# Altium integrated library Actel RTAX-S-SL.IntLib: 132 symbols (part 28 of 41)
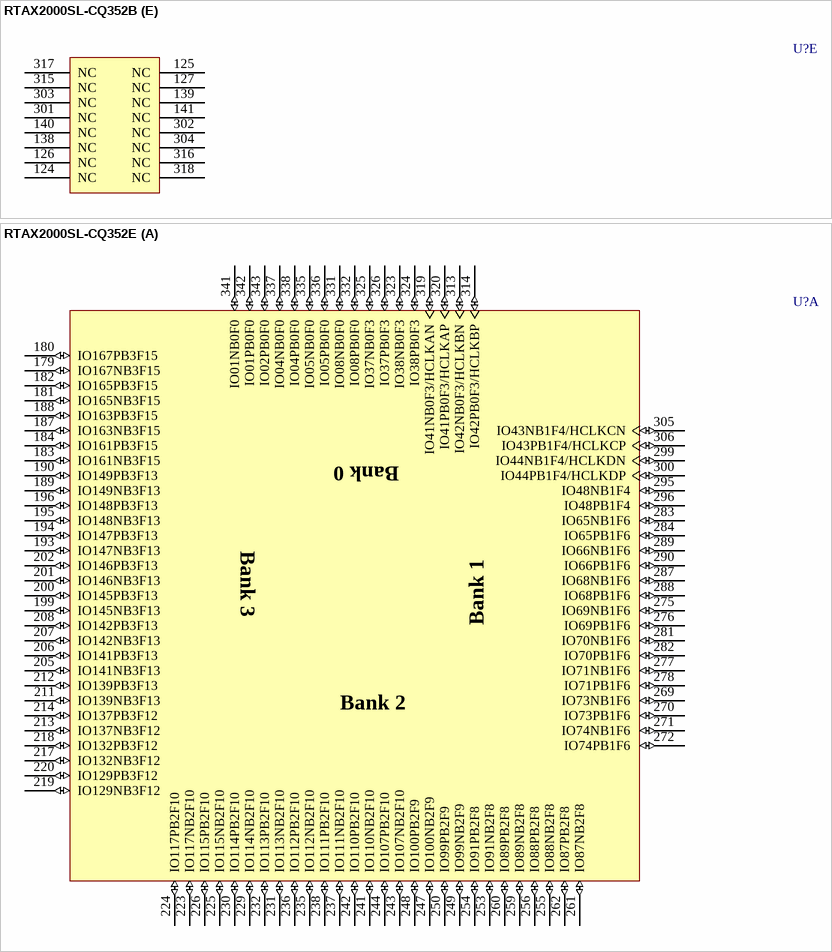
[diagram p406: symbols RTAX2000SL-CQ352B to RTAX2000SL-CQ352E]

## RTAX2000SL-CQ352B
designator U?
RTAX-SL RadTolerant FPGA, 2 Million Equivalent System Gates, Low-Power, 352-Pin CQFP, Speed Grade Standard, MIL-STD-883 Class B; Published: 11-Dec-2009; DatasheetVersion: v5.4, May-2009; PackageVersion: ver11.2, Nov-2009; PackageReference: CQ352; Publisher: Altium Limited; PackageDescription: 352-Pin Ceramic Quad Flat Pack (CQFP), Cavity Up without Heat Sink; Code_JEDEC: MO-134-AE; ComponentLink1Description: RTAX-S/SL RadTolerant Datasheet; ComponentLink1URL: http://www.actel.com/documents/RTAXS_DS.pdf; ComponentLink2Description: Package Mechanical Drawings; ComponentLink2URL: http://www.actel.com/documents/PckgMechDrwngs.pdf; ComponentLink3Description: RTAX-S/SL RadTolerant Documents; ComponentLink3URL: http://www.actel.com/products/milaero/rtaxs/docs.aspx; ComponentLink4Description: Actel.com Home; ComponentLink4URL: http://www.actel.com/
footprint CQ352_N (CQFP, 352-Leads, Body 48x48mm; Pitch 0.5mm, Gullwing Leadform, IPC Medium Density)
footprint CQ352_L (CQFP, 352-Leads, Body 48x48mm; Pitch 0.5mm, Gullwing Leadform, IPC High Density)
footprint CQ352_M (CQFP, 352-Leads, Body 48x48mm; Pitch 0.5mm, Gullwing Leadform, IPC Low Density)
part A pins: 179 IO167NB3F15 (io), 180 IO167PB3F15 (io), 181 IO165NB3F15 (io), 182 IO165PB3F15 (io), 183 IO161NB3F15 (io), 184 IO161PB3F15 (io), 187 IO163NB3F15 (io), 188 IO163PB3F15 (io), 189 IO149NB3F13 (io), 190 IO149PB3F13 (io), 193 IO147NB3F13 (io), 194 IO147PB3F13 (io), 195 IO148NB3F13 (io), 196 IO148PB3F13 (io), 199 IO145NB3F13 (io), 200 IO145PB3F13 (io), 201 IO146NB3F13 (io), 202 IO146PB3F13 (io), 205 IO141NB3F13 (io), 206 IO141PB3F13 (io), 207 IO142NB3F13 (io), 208 IO142PB3F13 (io), 211 IO139NB3F13 (io), 212 IO139PB3F13 (io), 213 IO137NB3F12 (io), 214 IO137PB3F12 (io), 217 IO132NB3F12 (io), 218 IO132PB3F12 (io), 219 IO129NB3F12 (io), 220 IO129PB3F12 (io), 223 IO117NB2F10 (io), 224 IO117PB2F10 (io), 225 IO115NB2F10 (io), 226 IO115PB2F10 (io), 229 IO114NB2F10 (io), 230 IO114PB2F10 (io), 231 IO113NB2F10 (io), 232 IO113PB2F10 (io), 235 IO112NB2F10 (io), 236 IO112PB2F10 (io), 237 IO111NB2F10 (io), 238 IO111PB2F10 (io), 241 IO110NB2F10 (io), 242 IO110PB2F10 (io), 243 IO107NB2F10 (io), 244 IO107PB2F10 (io), 247 IO100NB2F9 (io), 248 IO100PB2F9 (io), 249 IO99NB2F9 (io), 250 IO99PB2F9 (io), 253 IO91NB2F8 (io), 254 IO91PB2F8 (io), 255 IO88NB2F8 (io), 256 IO88PB2F8 (io), 259 IO89NB2F8 (io), 260 IO89PB2F8 (io), 261 IO87NB2F8 (io), 262 IO87PB2F8 (io), 269 IO73NB1F6 (io), 270 IO73PB1F6 (io), 271 IO74NB1F6 (io), 272 IO74PB1F6 (io), 275 IO69NB1F6 (io), 276 IO69PB1F6 (io), 277 IO71NB1F6 (io), 278 IO71PB1F6 (io), 281 IO70NB1F6 (io), 282 IO70PB1F6 (io), 283 IO65NB1F6 (io), 284 IO65PB1F6 (io), 287 IO68NB1F6 (io), 288 IO68PB1F6 (io), 289 IO66NB1F6 (io), 290 IO66PB1F6 (io), 295 IO48NB1F4 (io), 296 IO48PB1F4 (io), 299 IO44NB1F4/HCLKDN (io), 300 IO44PB1F4/HCLKDP (io), 305 IO43NB1F4/HCLKCN (io), 306 IO43PB1F4/HCLKCP (io), 313 IO42NB0F3/HCLKBN (io), 314 IO42PB0F3/HCLKBP (io), 319 IO41NB0F3/HCLKAN (io), 320 IO41PB0F3/HCLKAP (io), 323 IO38NB0F3 (io), 324 IO38PB0F3 (io), 325 IO37NB0F3 (io), 326 IO37PB0F3 (io), 331 IO08NB0F0 (io), 332 IO08PB0F0 (io), 335 IO05NB0F0 (io), 336 IO05PB0F0 (io), 337 IO04NB0F0 (io), 338 IO04PB0F0 (io), 341 IO01NB0F0 (io), 342 IO01PB0F0 (io), 343 IO02PB0F0 (io)
part B pins: 4 IO341NB7F31 (io), 5 IO341PB7F31 (io), 6 IO338NB7F31 (io), 7 IO338PB7F31 (io), 10 IO334NB7F31 (io), 11 IO334PB7F31 (io), 12 IO335NB7F31 (io), 13 IO335PB7F31 (io), 16 IO320NB7F29 (io), 17 IO320PB7F29 (io), 18 IO318NB7F29 (io), 19 IO318PB7F29 (io), 22 IO316NB7F29 (io), 23 IO316PB7F29 (io), 24 IO317NB7F29 (io), 25 IO317PB7F29 (io), 28 IO312NB7F29 (io), 29 IO312PB7F29 (io), 30 IO315NB7F29 (io), 31 IO315PB7F29 (io), 34 IO310NB7F29 (io), 35 IO310PB7F29 (io), 36 IO311NB7F29 (io), 37 IO311PB7F29 (io), 40 IO303NB7F28 (io), 41 IO303PB7F28 (io), 42 IO300NB7F28 (io), 43 IO300PB7F28 (io), 46 IO296NB6F27 (io), 47 IO296PB6F27 (io), 48 IO294NB6F27 (io), 49 IO294PB6F27 (io), 52 IO287NB6F26 (io), 53 IO287PB6F26 (io), 54 IO286NB6F26 (io), 55 IO286PB6F26 (io), 58 IO285NB6F26 (io), 59 IO285PB6F26 (io), 60 IO284NB6F26 (io), 61 IO284PB6F26 (io), 64 IO282NB6F26 (io), 65 IO282PB6F26 (io), 66 IO281NB6F26 (io), 67 IO281PB6F26 (io), 70 IO280NB6F26 (io), 71 IO280PB6F26 (io), 72 IO279NB6F26 (io), 73 IO279PB6F26 (io), 76 IO265NB6F24 (io), 77 IO265PB6F24 (io), 78 IO262NB6F24 (io), 79 IO262PB6F24 (io), 82 IO261NB6F24 (io), 83 IO261PB6F24 (io), 84 IO258NB6F24 (io), 85 IO258PB6F24 (io), 86 IO257PB6F24 (io), 92 IO244NB5F22 (io), 93 IO244PB5F22 (io), 94 IO242NB5F22 (io), 95 IO242PB5F22 (io), 98 IO243NB5F22 (io), 99 IO243PB5F22 (io), 100 IO240NB5F22 (io), 101 IO240PB5F22 (io), 104 IO238NB5F22 (io), 105 IO238PB5F22 (io), 106 IO239NB5F22 (io), 107 IO239PB5F22 (io), 110 IO236NB5F22 (io), 111 IO236PB5F22 (io), 112 IO237NB5F22 (io), 113 IO237PB5F22 (io), 118 IO217NB5F20 (io), 119 IO217PB5F20 (io), 122 IO215NB5F20/CLKHN (io), 123 IO215PB5F20/CLKHP (io), 128 IO214NB5F20/CLKGN (io), 129 IO214PB5F20/CLKGP (io), 136 IO213NB4F19/CLKFN (io), 137 IO213PB4F19/CLKFP (io), 142 IO212NB4F19/CLKEN (io), 143 IO212PB4F19/CLKEP (io), 146 IO207NB4F19 (io), 147 IO207PB4F19 (io), 152 IO192NB4F17 (io), 153 IO192PB4F17 (io), 154 IO191NB4F17 (io), 155 IO191PB4F17 (io), 158 IO190NB4F17 (io), 159 IO190PB4F17 (io), 160 IO185NB4F17 (io), 161 IO185PB4F17 (io), 164 IO184NB4F17 (io), 165 IO184PB4F17 (io), 166 IO183NB4F17 (io), 167 IO183PB4F17 (io), 170 IO182NB4F17 (io), 171 IO182PB4F17 (io), 172 IO181NB4F17 (io), 173 IO181PB4F17 (io)
part C pins: 2 VCCDA (power), 3 VCCA (power), 8 VCCIB7 (power), 14 VCCA (power), 20 VCCIB7 (power), 26 VCCIB7 (power), 32 VCCA (power), 38 VCCIB7 (power), 44 VCCDA (power), 50 VCCIB6 (power), 56 VCCA (power), 62 VCCIB6 (power), 68 VCCIB6 (power), 74 VCCA (power), 80 VCCIB6 (power), 87 VCCA (power), 90 VCCDA (power), 91 VCCDA (power), 96 VCCIB5 (power), 102 VCCA (power), 108 VCCIB5 (power), 114 VCCA (power), 116 VCCDA (power), 117 VCCDA (power), 120 VCCIB5 (power), 130 VCCDA (power), 131 VCCDA (power), 132 VCCDA (power), 134 PRD (out), 135 PRC (out), 144 VCCIB4 (power), 148 VCCDA (power), 149 VCCDA (power), 150 VCCA (power), 156 VCCIB4 (power), 162 VCCA (power), 168 VCCIB4 (power), 174 VCCDA (power), 175 VCCA (power), 178 VCCDA (power), 185 VCCIB3 (power), 191 VCCA (power), 197 VCCIB3 (power), 203 VCCIB3 (power), 209 VCCA (power), 215 VCCIB3 (power), 221 VCCDA (power), 227 VCCIB2 (power), 233 VCCA (power), 239 VCCIB2 (power), 245 VCCIB2 (power), 251 VCCA (power), 257 VCCIB2 (power), 263 VCCA (power), 266 VCCDA (power), 267 VPUMP (power), 268 VCCDA (power), 273 VCCIB1 (power), 279 VCCA (power), 285 VCCIB1 (power), 291 VCCA (power), 293 VCCDA (power), 294 VCCDA (power), 297 VCCIB1 (power), 307 VCCDA (power), 308 VCCDA (power), 309 VCCDA (power), 311 PRB (out), 312 PRA (out), 321 VCCIB0 (power), 327 VCCDA (power), 328 VCCDA (power), 329 VCCA (power), 333 VCCIB0 (power), 339 VCCA (power), 344 VCCIB0 (power), 346 VCCDA (power), 347 TDO (hiz), 348 TDI (in), 349 TCK (in), 350 TMS (in), 351 ~{TRST} (in)
part D pins: 1 GND (power), 9 GND (power), 15 GND (power), 21 GND (power), 27 GND (power), 33 GND (power), 39 GND (power), 45 GND (power), 51 GND (power), 57 GND (power), 63 GND (power), 69 GND (power), 75 GND (power), 81 GND (power), 88 GND (power), 89 GND (power), 97 GND (power), 103 GND (power), 109 GND (power), 115 GND (power), 121 GND (power), 133 GND (power), 145 GND (power), 151 GND (power), 157 GND (power), 163 GND (power), 169 GND (power), 176 GND (power), 177 GND (power), 186 GND (power), 192 GND (power), 198 GND (power), 204 GND (power), 210 GND (power), 216 GND (power), 222 GND (power), 228 GND (power), 234 GND (power), 240 GND (power), 246 GND (power), 252 GND (power), 258 GND (power), 264 GND (power), 265 GND (power), 274 GND (power), 280 GND (power), 286 GND (power), 292 GND (power), 298 GND (power), 310 GND (power), 322 GND (power), 330 GND (power), 334 GND (power), 340 GND (power), 345 GND (power), 352 GND (power)
part E pins: 124 NC, 125 NC, 126 NC, 127 NC, 138 NC, 139 NC, 140 NC, 141 NC, 301 NC, 302 NC, 303 NC, 304 NC, 315 NC, 316 NC, 317 NC, 318 NC
part A text: Bank 0; Bank 3; Bank 1; Bank 2
part B text: Bank 4; Bank 7; Bank 5; Bank 6

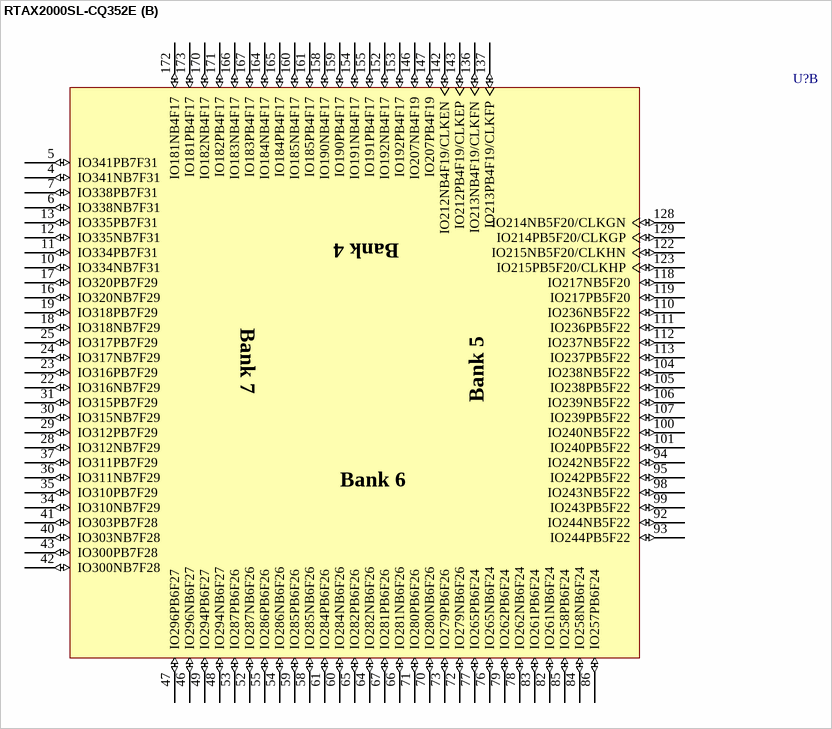
[diagram p267: symbol RTAX2000SL-CQ352E]

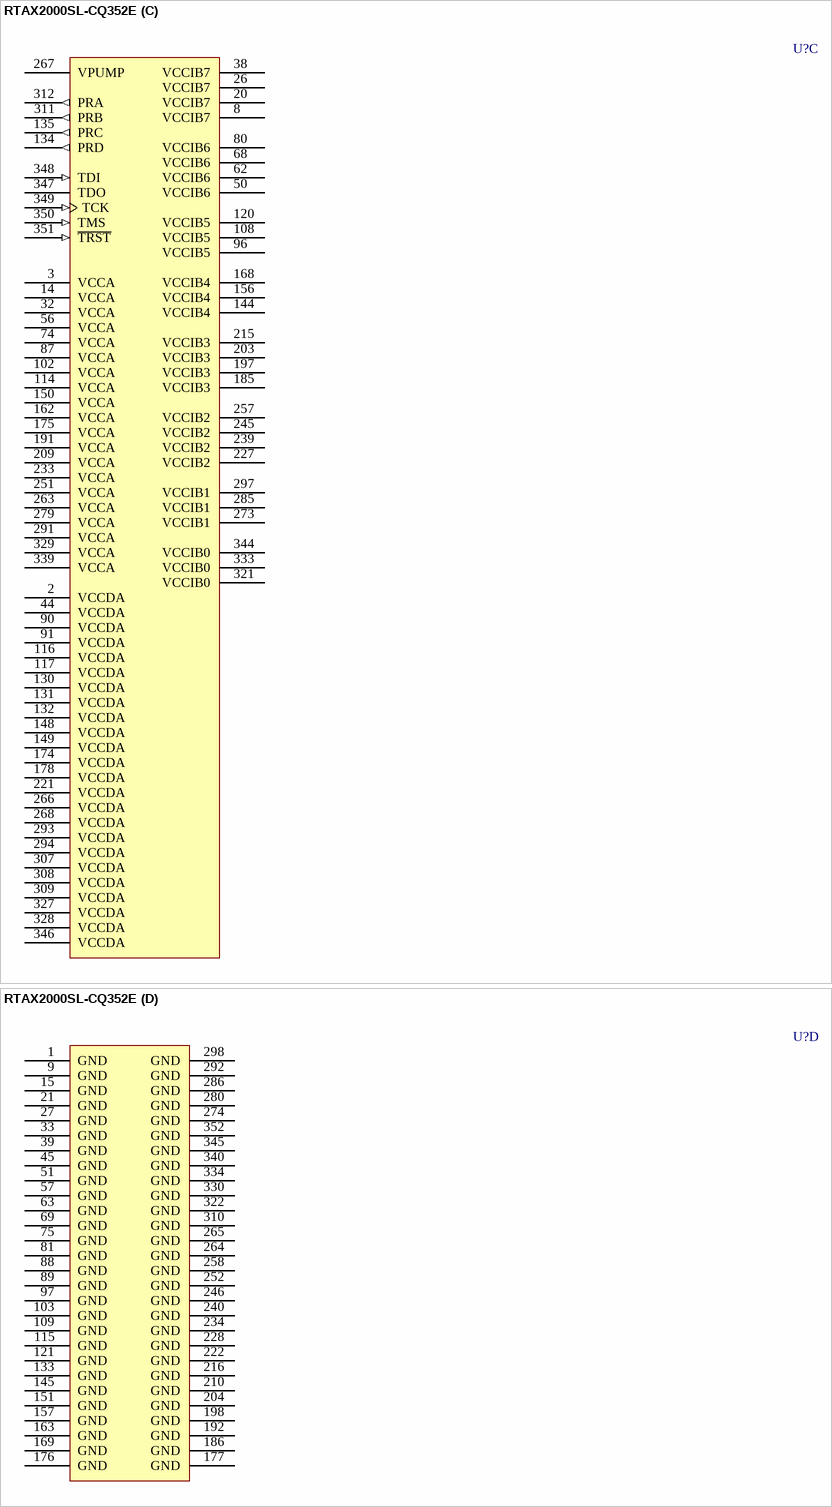
[diagram p268: symbol RTAX2000SL-CQ352E]

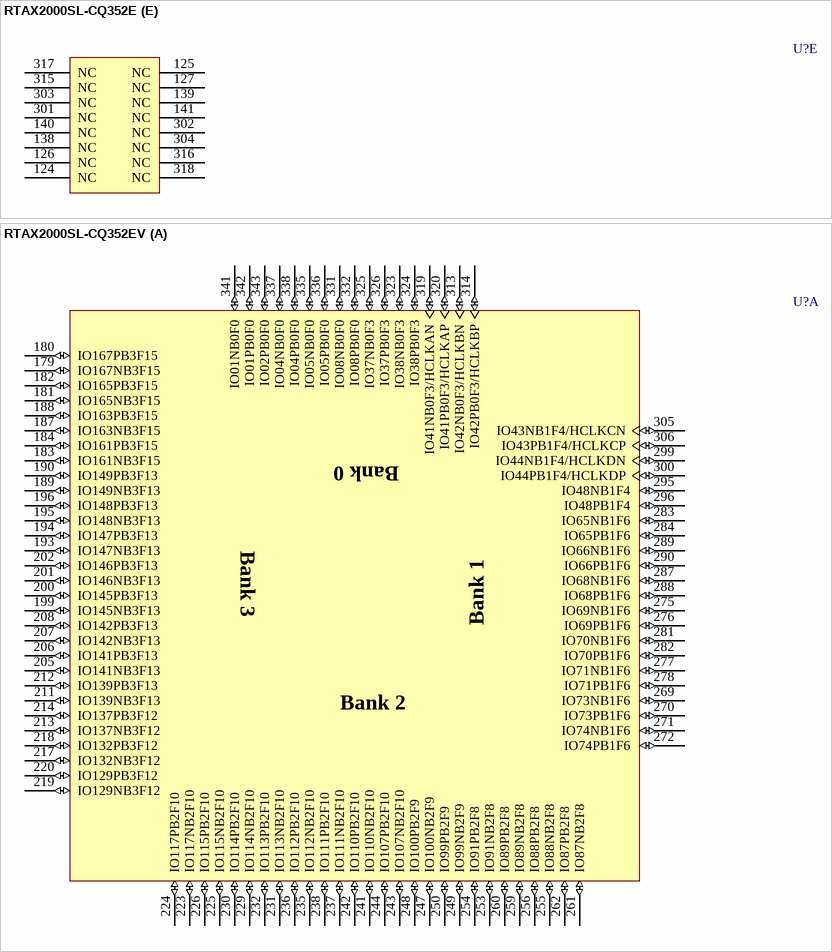
[diagram p269: symbols RTAX2000SL-CQ352E to RTAX2000SL-CQ352EV]

## RTAX2000SL-CQ352E
designator U?
RTAX-SL RadTolerant FPGA, 2 Million Equivalent System Gates, Low-Power, 352-Pin CQFP, Speed Grade Standard, E-Flow (Space Level Flow); Published: 11-Dec-2009; DatasheetVersion: v5.4, May-2009; PackageVersion: ver11.2, Nov-2009; PackageReference: CQ352; Publisher: Altium Limited; PackageDescription: 352-Pin Ceramic Quad Flat Pack (CQFP), Cavity Up without Heat Sink; Code_JEDEC: MO-134-AE; ComponentLink1Description: RTAX-S/SL RadTolerant Datasheet; ComponentLink1URL: http://www.actel.com/documents/RTAXS_DS.pdf; ComponentLink2Description: Package Mechanical Drawings; ComponentLink2URL: http://www.actel.com/documents/PckgMechDrwngs.pdf; ComponentLink3Description: RTAX-S/SL RadTolerant Documents; ComponentLink3URL: http://www.actel.com/products/milaero/rtaxs/docs.aspx; ComponentLink4Description: Actel.com Home; ComponentLink4URL: http://www.actel.com/
footprint CQ352_N (CQFP, 352-Leads, Body 48x48mm; Pitch 0.5mm, Gullwing Leadform, IPC Medium Density)
footprint CQ352_L (CQFP, 352-Leads, Body 48x48mm; Pitch 0.5mm, Gullwing Leadform, IPC High Density)
footprint CQ352_M (CQFP, 352-Leads, Body 48x48mm; Pitch 0.5mm, Gullwing Leadform, IPC Low Density)
part A pins: 179 IO167NB3F15 (io), 180 IO167PB3F15 (io), 181 IO165NB3F15 (io), 182 IO165PB3F15 (io), 183 IO161NB3F15 (io), 184 IO161PB3F15 (io), 187 IO163NB3F15 (io), 188 IO163PB3F15 (io), 189 IO149NB3F13 (io), 190 IO149PB3F13 (io), 193 IO147NB3F13 (io), 194 IO147PB3F13 (io), 195 IO148NB3F13 (io), 196 IO148PB3F13 (io), 199 IO145NB3F13 (io), 200 IO145PB3F13 (io), 201 IO146NB3F13 (io), 202 IO146PB3F13 (io), 205 IO141NB3F13 (io), 206 IO141PB3F13 (io), 207 IO142NB3F13 (io), 208 IO142PB3F13 (io), 211 IO139NB3F13 (io), 212 IO139PB3F13 (io), 213 IO137NB3F12 (io), 214 IO137PB3F12 (io), 217 IO132NB3F12 (io), 218 IO132PB3F12 (io), 219 IO129NB3F12 (io), 220 IO129PB3F12 (io), 223 IO117NB2F10 (io), 224 IO117PB2F10 (io), 225 IO115NB2F10 (io), 226 IO115PB2F10 (io), 229 IO114NB2F10 (io), 230 IO114PB2F10 (io), 231 IO113NB2F10 (io), 232 IO113PB2F10 (io), 235 IO112NB2F10 (io), 236 IO112PB2F10 (io), 237 IO111NB2F10 (io), 238 IO111PB2F10 (io), 241 IO110NB2F10 (io), 242 IO110PB2F10 (io), 243 IO107NB2F10 (io), 244 IO107PB2F10 (io), 247 IO100NB2F9 (io), 248 IO100PB2F9 (io), 249 IO99NB2F9 (io), 250 IO99PB2F9 (io), 253 IO91NB2F8 (io), 254 IO91PB2F8 (io), 255 IO88NB2F8 (io), 256 IO88PB2F8 (io), 259 IO89NB2F8 (io), 260 IO89PB2F8 (io), 261 IO87NB2F8 (io), 262 IO87PB2F8 (io), 269 IO73NB1F6 (io), 270 IO73PB1F6 (io), 271 IO74NB1F6 (io), 272 IO74PB1F6 (io), 275 IO69NB1F6 (io), 276 IO69PB1F6 (io), 277 IO71NB1F6 (io), 278 IO71PB1F6 (io), 281 IO70NB1F6 (io), 282 IO70PB1F6 (io), 283 IO65NB1F6 (io), 284 IO65PB1F6 (io), 287 IO68NB1F6 (io), 288 IO68PB1F6 (io), 289 IO66NB1F6 (io), 290 IO66PB1F6 (io), 295 IO48NB1F4 (io), 296 IO48PB1F4 (io), 299 IO44NB1F4/HCLKDN (io), 300 IO44PB1F4/HCLKDP (io), 305 IO43NB1F4/HCLKCN (io), 306 IO43PB1F4/HCLKCP (io), 313 IO42NB0F3/HCLKBN (io), 314 IO42PB0F3/HCLKBP (io), 319 IO41NB0F3/HCLKAN (io), 320 IO41PB0F3/HCLKAP (io), 323 IO38NB0F3 (io), 324 IO38PB0F3 (io), 325 IO37NB0F3 (io), 326 IO37PB0F3 (io), 331 IO08NB0F0 (io), 332 IO08PB0F0 (io), 335 IO05NB0F0 (io), 336 IO05PB0F0 (io), 337 IO04NB0F0 (io), 338 IO04PB0F0 (io), 341 IO01NB0F0 (io), 342 IO01PB0F0 (io), 343 IO02PB0F0 (io)
part B pins: 4 IO341NB7F31 (io), 5 IO341PB7F31 (io), 6 IO338NB7F31 (io), 7 IO338PB7F31 (io), 10 IO334NB7F31 (io), 11 IO334PB7F31 (io), 12 IO335NB7F31 (io), 13 IO335PB7F31 (io), 16 IO320NB7F29 (io), 17 IO320PB7F29 (io), 18 IO318NB7F29 (io), 19 IO318PB7F29 (io), 22 IO316NB7F29 (io), 23 IO316PB7F29 (io), 24 IO317NB7F29 (io), 25 IO317PB7F29 (io), 28 IO312NB7F29 (io), 29 IO312PB7F29 (io), 30 IO315NB7F29 (io), 31 IO315PB7F29 (io), 34 IO310NB7F29 (io), 35 IO310PB7F29 (io), 36 IO311NB7F29 (io), 37 IO311PB7F29 (io), 40 IO303NB7F28 (io), 41 IO303PB7F28 (io), 42 IO300NB7F28 (io), 43 IO300PB7F28 (io), 46 IO296NB6F27 (io), 47 IO296PB6F27 (io), 48 IO294NB6F27 (io), 49 IO294PB6F27 (io), 52 IO287NB6F26 (io), 53 IO287PB6F26 (io), 54 IO286NB6F26 (io), 55 IO286PB6F26 (io), 58 IO285NB6F26 (io), 59 IO285PB6F26 (io), 60 IO284NB6F26 (io), 61 IO284PB6F26 (io), 64 IO282NB6F26 (io), 65 IO282PB6F26 (io), 66 IO281NB6F26 (io), 67 IO281PB6F26 (io), 70 IO280NB6F26 (io), 71 IO280PB6F26 (io), 72 IO279NB6F26 (io), 73 IO279PB6F26 (io), 76 IO265NB6F24 (io), 77 IO265PB6F24 (io), 78 IO262NB6F24 (io), 79 IO262PB6F24 (io), 82 IO261NB6F24 (io), 83 IO261PB6F24 (io), 84 IO258NB6F24 (io), 85 IO258PB6F24 (io), 86 IO257PB6F24 (io), 92 IO244NB5F22 (io), 93 IO244PB5F22 (io), 94 IO242NB5F22 (io), 95 IO242PB5F22 (io), 98 IO243NB5F22 (io), 99 IO243PB5F22 (io), 100 IO240NB5F22 (io), 101 IO240PB5F22 (io), 104 IO238NB5F22 (io), 105 IO238PB5F22 (io), 106 IO239NB5F22 (io), 107 IO239PB5F22 (io), 110 IO236NB5F22 (io), 111 IO236PB5F22 (io), 112 IO237NB5F22 (io), 113 IO237PB5F22 (io), 118 IO217NB5F20 (io), 119 IO217PB5F20 (io), 122 IO215NB5F20/CLKHN (io), 123 IO215PB5F20/CLKHP (io), 128 IO214NB5F20/CLKGN (io), 129 IO214PB5F20/CLKGP (io), 136 IO213NB4F19/CLKFN (io), 137 IO213PB4F19/CLKFP (io), 142 IO212NB4F19/CLKEN (io), 143 IO212PB4F19/CLKEP (io), 146 IO207NB4F19 (io), 147 IO207PB4F19 (io), 152 IO192NB4F17 (io), 153 IO192PB4F17 (io), 154 IO191NB4F17 (io), 155 IO191PB4F17 (io), 158 IO190NB4F17 (io), 159 IO190PB4F17 (io), 160 IO185NB4F17 (io), 161 IO185PB4F17 (io), 164 IO184NB4F17 (io), 165 IO184PB4F17 (io), 166 IO183NB4F17 (io), 167 IO183PB4F17 (io), 170 IO182NB4F17 (io), 171 IO182PB4F17 (io), 172 IO181NB4F17 (io), 173 IO181PB4F17 (io)
part C pins: 2 VCCDA (power), 3 VCCA (power), 8 VCCIB7 (power), 14 VCCA (power), 20 VCCIB7 (power), 26 VCCIB7 (power), 32 VCCA (power), 38 VCCIB7 (power), 44 VCCDA (power), 50 VCCIB6 (power), 56 VCCA (power), 62 VCCIB6 (power), 68 VCCIB6 (power), 74 VCCA (power), 80 VCCIB6 (power), 87 VCCA (power), 90 VCCDA (power), 91 VCCDA (power), 96 VCCIB5 (power), 102 VCCA (power), 108 VCCIB5 (power), 114 VCCA (power), 116 VCCDA (power), 117 VCCDA (power), 120 VCCIB5 (power), 130 VCCDA (power), 131 VCCDA (power), 132 VCCDA (power), 134 PRD (out), 135 PRC (out), 144 VCCIB4 (power), 148 VCCDA (power), 149 VCCDA (power), 150 VCCA (power), 156 VCCIB4 (power), 162 VCCA (power), 168 VCCIB4 (power), 174 VCCDA (power), 175 VCCA (power), 178 VCCDA (power), 185 VCCIB3 (power), 191 VCCA (power), 197 VCCIB3 (power), 203 VCCIB3 (power), 209 VCCA (power), 215 VCCIB3 (power), 221 VCCDA (power), 227 VCCIB2 (power), 233 VCCA (power), 239 VCCIB2 (power), 245 VCCIB2 (power), 251 VCCA (power), 257 VCCIB2 (power), 263 VCCA (power), 266 VCCDA (power), 267 VPUMP (power), 268 VCCDA (power), 273 VCCIB1 (power), 279 VCCA (power), 285 VCCIB1 (power), 291 VCCA (power), 293 VCCDA (power), 294 VCCDA (power), 297 VCCIB1 (power), 307 VCCDA (power), 308 VCCDA (power), 309 VCCDA (power), 311 PRB (out), 312 PRA (out), 321 VCCIB0 (power), 327 VCCDA (power), 328 VCCDA (power), 329 VCCA (power), 333 VCCIB0 (power), 339 VCCA (power), 344 VCCIB0 (power), 346 VCCDA (power), 347 TDO (hiz), 348 TDI (in), 349 TCK (in), 350 TMS (in), 351 ~{TRST} (in)
part D pins: 1 GND (power), 9 GND (power), 15 GND (power), 21 GND (power), 27 GND (power), 33 GND (power), 39 GND (power), 45 GND (power), 51 GND (power), 57 GND (power), 63 GND (power), 69 GND (power), 75 GND (power), 81 GND (power), 88 GND (power), 89 GND (power), 97 GND (power), 103 GND (power), 109 GND (power), 115 GND (power), 121 GND (power), 133 GND (power), 145 GND (power), 151 GND (power), 157 GND (power), 163 GND (power), 169 GND (power), 176 GND (power), 177 GND (power), 186 GND (power), 192 GND (power), 198 GND (power), 204 GND (power), 210 GND (power), 216 GND (power), 222 GND (power), 228 GND (power), 234 GND (power), 240 GND (power), 246 GND (power), 252 GND (power), 258 GND (power), 264 GND (power), 265 GND (power), 274 GND (power), 280 GND (power), 286 GND (power), 292 GND (power), 298 GND (power), 310 GND (power), 322 GND (power), 330 GND (power), 334 GND (power), 340 GND (power), 345 GND (power), 352 GND (power)
part E pins: 124 NC, 125 NC, 126 NC, 127 NC, 138 NC, 139 NC, 140 NC, 141 NC, 301 NC, 302 NC, 303 NC, 304 NC, 315 NC, 316 NC, 317 NC, 318 NC
part A text: Bank 0; Bank 3; Bank 1; Bank 2
part B text: Bank 4; Bank 7; Bank 5; Bank 6

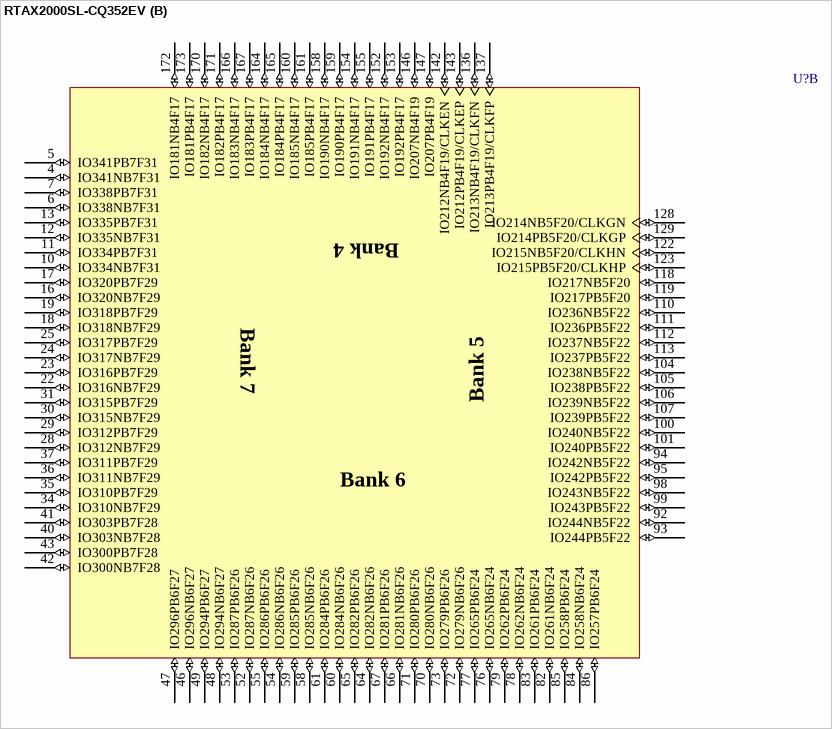
[diagram p270: symbol RTAX2000SL-CQ352EV]

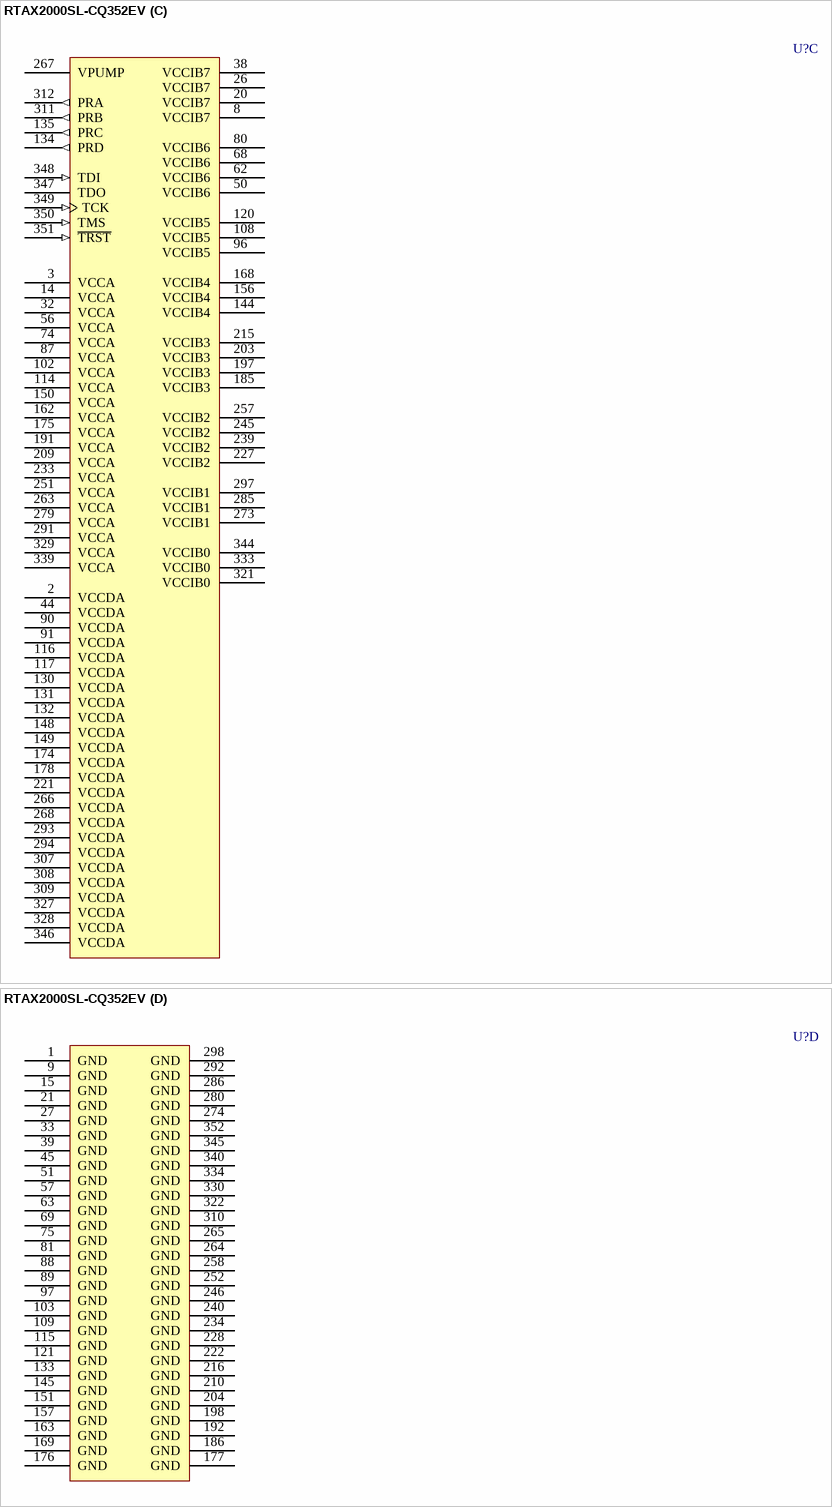
[diagram p271: symbol RTAX2000SL-CQ352EV]

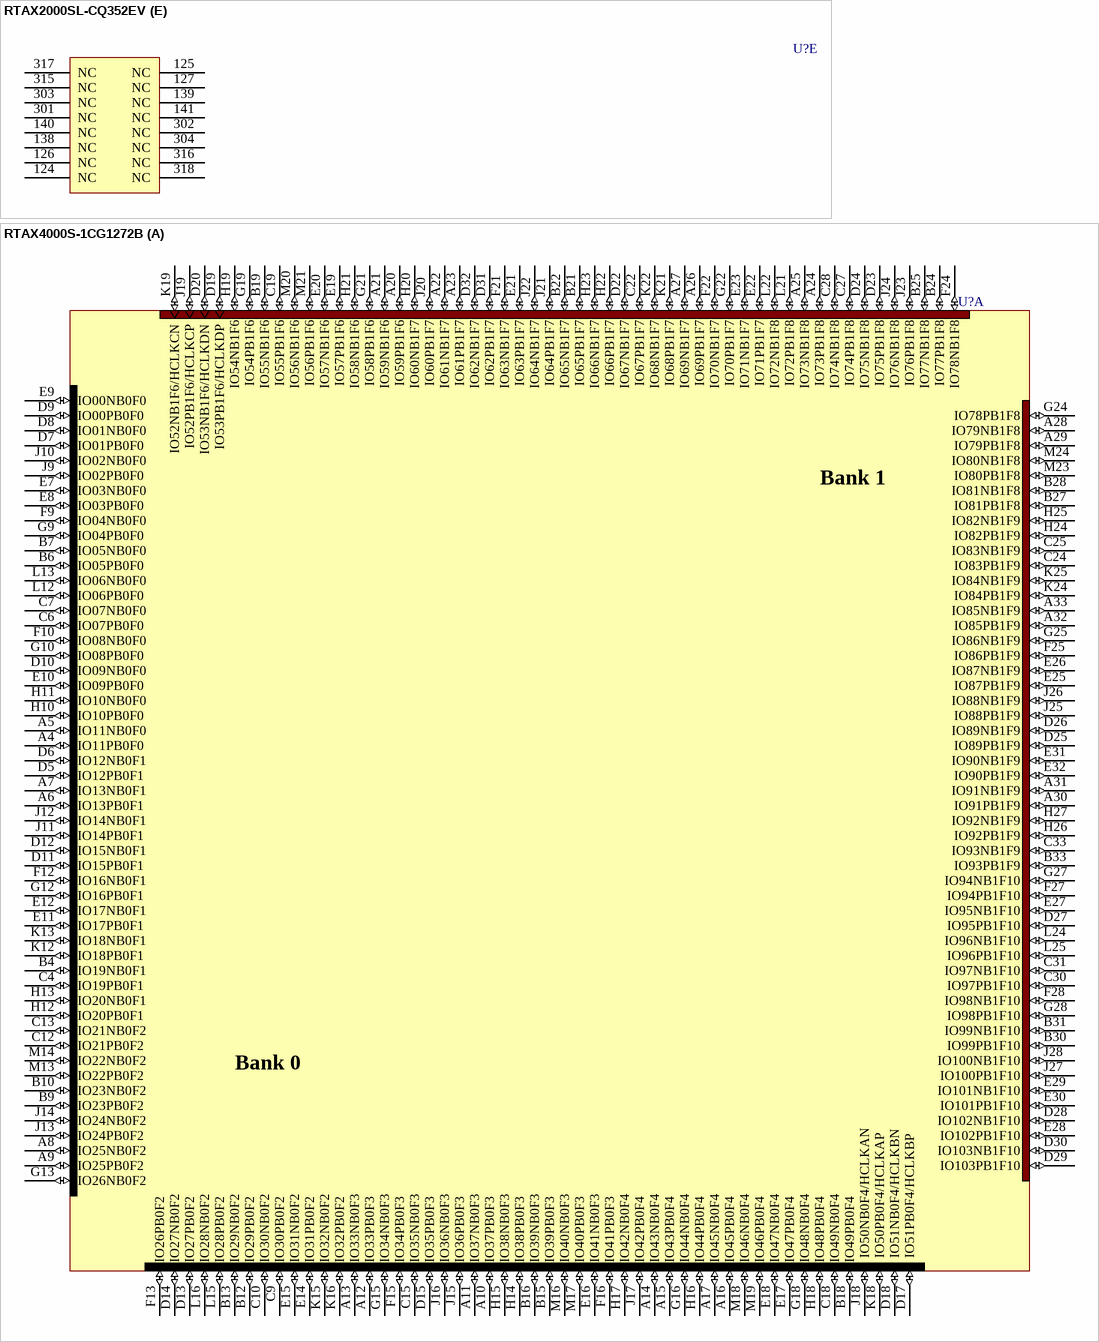
[diagram p272: symbols RTAX2000SL-CQ352EV to RTAX4000S-1CG1272B]

## RTAX2000SL-CQ352EV
designator U?
RTAX-SL RadTolerant FPGA, 2 Million Equivalent System Gates, Low-Power, 352-Pin CQFP, Speed Grade Standard, Class V; Published: 11-Dec-2009; DatasheetVersion: v5.4, May-2009; PackageVersion: ver11.2, Nov-2009; PackageReference: CQ352; Publisher: Altium Limited; PackageDescription: 352-Pin Ceramic Quad Flat Pack (CQFP), Cavity Up without Heat Sink; Code_JEDEC: MO-134-AE; ComponentLink1Description: RTAX-S/SL RadTolerant Datasheet; ComponentLink1URL: http://www.actel.com/documents/RTAXS_DS.pdf; ComponentLink2Description: Package Mechanical Drawings; ComponentLink2URL: http://www.actel.com/documents/PckgMechDrwngs.pdf; ComponentLink3Description: RTAX-S/SL RadTolerant Documents; ComponentLink3URL: http://www.actel.com/products/milaero/rtaxs/docs.aspx; ComponentLink4Description: Actel.com Home; ComponentLink4URL: http://www.actel.com/
footprint CQ352_N (CQFP, 352-Leads, Body 48x48mm; Pitch 0.5mm, Gullwing Leadform, IPC Medium Density)
footprint CQ352_L (CQFP, 352-Leads, Body 48x48mm; Pitch 0.5mm, Gullwing Leadform, IPC High Density)
footprint CQ352_M (CQFP, 352-Leads, Body 48x48mm; Pitch 0.5mm, Gullwing Leadform, IPC Low Density)
part A pins: 179 IO167NB3F15 (io), 180 IO167PB3F15 (io), 181 IO165NB3F15 (io), 182 IO165PB3F15 (io), 183 IO161NB3F15 (io), 184 IO161PB3F15 (io), 187 IO163NB3F15 (io), 188 IO163PB3F15 (io), 189 IO149NB3F13 (io), 190 IO149PB3F13 (io), 193 IO147NB3F13 (io), 194 IO147PB3F13 (io), 195 IO148NB3F13 (io), 196 IO148PB3F13 (io), 199 IO145NB3F13 (io), 200 IO145PB3F13 (io), 201 IO146NB3F13 (io), 202 IO146PB3F13 (io), 205 IO141NB3F13 (io), 206 IO141PB3F13 (io), 207 IO142NB3F13 (io), 208 IO142PB3F13 (io), 211 IO139NB3F13 (io), 212 IO139PB3F13 (io), 213 IO137NB3F12 (io), 214 IO137PB3F12 (io), 217 IO132NB3F12 (io), 218 IO132PB3F12 (io), 219 IO129NB3F12 (io), 220 IO129PB3F12 (io), 223 IO117NB2F10 (io), 224 IO117PB2F10 (io), 225 IO115NB2F10 (io), 226 IO115PB2F10 (io), 229 IO114NB2F10 (io), 230 IO114PB2F10 (io), 231 IO113NB2F10 (io), 232 IO113PB2F10 (io), 235 IO112NB2F10 (io), 236 IO112PB2F10 (io), 237 IO111NB2F10 (io), 238 IO111PB2F10 (io), 241 IO110NB2F10 (io), 242 IO110PB2F10 (io), 243 IO107NB2F10 (io), 244 IO107PB2F10 (io), 247 IO100NB2F9 (io), 248 IO100PB2F9 (io), 249 IO99NB2F9 (io), 250 IO99PB2F9 (io), 253 IO91NB2F8 (io), 254 IO91PB2F8 (io), 255 IO88NB2F8 (io), 256 IO88PB2F8 (io), 259 IO89NB2F8 (io), 260 IO89PB2F8 (io), 261 IO87NB2F8 (io), 262 IO87PB2F8 (io), 269 IO73NB1F6 (io), 270 IO73PB1F6 (io), 271 IO74NB1F6 (io), 272 IO74PB1F6 (io), 275 IO69NB1F6 (io), 276 IO69PB1F6 (io), 277 IO71NB1F6 (io), 278 IO71PB1F6 (io), 281 IO70NB1F6 (io), 282 IO70PB1F6 (io), 283 IO65NB1F6 (io), 284 IO65PB1F6 (io), 287 IO68NB1F6 (io), 288 IO68PB1F6 (io), 289 IO66NB1F6 (io), 290 IO66PB1F6 (io), 295 IO48NB1F4 (io), 296 IO48PB1F4 (io), 299 IO44NB1F4/HCLKDN (io), 300 IO44PB1F4/HCLKDP (io), 305 IO43NB1F4/HCLKCN (io), 306 IO43PB1F4/HCLKCP (io), 313 IO42NB0F3/HCLKBN (io), 314 IO42PB0F3/HCLKBP (io), 319 IO41NB0F3/HCLKAN (io), 320 IO41PB0F3/HCLKAP (io), 323 IO38NB0F3 (io), 324 IO38PB0F3 (io), 325 IO37NB0F3 (io), 326 IO37PB0F3 (io), 331 IO08NB0F0 (io), 332 IO08PB0F0 (io), 335 IO05NB0F0 (io), 336 IO05PB0F0 (io), 337 IO04NB0F0 (io), 338 IO04PB0F0 (io), 341 IO01NB0F0 (io), 342 IO01PB0F0 (io), 343 IO02PB0F0 (io)
part B pins: 4 IO341NB7F31 (io), 5 IO341PB7F31 (io), 6 IO338NB7F31 (io), 7 IO338PB7F31 (io), 10 IO334NB7F31 (io), 11 IO334PB7F31 (io), 12 IO335NB7F31 (io), 13 IO335PB7F31 (io), 16 IO320NB7F29 (io), 17 IO320PB7F29 (io), 18 IO318NB7F29 (io), 19 IO318PB7F29 (io), 22 IO316NB7F29 (io), 23 IO316PB7F29 (io), 24 IO317NB7F29 (io), 25 IO317PB7F29 (io), 28 IO312NB7F29 (io), 29 IO312PB7F29 (io), 30 IO315NB7F29 (io), 31 IO315PB7F29 (io), 34 IO310NB7F29 (io), 35 IO310PB7F29 (io), 36 IO311NB7F29 (io), 37 IO311PB7F29 (io), 40 IO303NB7F28 (io), 41 IO303PB7F28 (io), 42 IO300NB7F28 (io), 43 IO300PB7F28 (io), 46 IO296NB6F27 (io), 47 IO296PB6F27 (io), 48 IO294NB6F27 (io), 49 IO294PB6F27 (io), 52 IO287NB6F26 (io), 53 IO287PB6F26 (io), 54 IO286NB6F26 (io), 55 IO286PB6F26 (io), 58 IO285NB6F26 (io), 59 IO285PB6F26 (io), 60 IO284NB6F26 (io), 61 IO284PB6F26 (io), 64 IO282NB6F26 (io), 65 IO282PB6F26 (io), 66 IO281NB6F26 (io), 67 IO281PB6F26 (io), 70 IO280NB6F26 (io), 71 IO280PB6F26 (io), 72 IO279NB6F26 (io), 73 IO279PB6F26 (io), 76 IO265NB6F24 (io), 77 IO265PB6F24 (io), 78 IO262NB6F24 (io), 79 IO262PB6F24 (io), 82 IO261NB6F24 (io), 83 IO261PB6F24 (io), 84 IO258NB6F24 (io), 85 IO258PB6F24 (io), 86 IO257PB6F24 (io), 92 IO244NB5F22 (io), 93 IO244PB5F22 (io), 94 IO242NB5F22 (io), 95 IO242PB5F22 (io), 98 IO243NB5F22 (io), 99 IO243PB5F22 (io), 100 IO240NB5F22 (io), 101 IO240PB5F22 (io), 104 IO238NB5F22 (io), 105 IO238PB5F22 (io), 106 IO239NB5F22 (io), 107 IO239PB5F22 (io), 110 IO236NB5F22 (io), 111 IO236PB5F22 (io), 112 IO237NB5F22 (io), 113 IO237PB5F22 (io), 118 IO217NB5F20 (io), 119 IO217PB5F20 (io), 122 IO215NB5F20/CLKHN (io), 123 IO215PB5F20/CLKHP (io), 128 IO214NB5F20/CLKGN (io), 129 IO214PB5F20/CLKGP (io), 136 IO213NB4F19/CLKFN (io), 137 IO213PB4F19/CLKFP (io), 142 IO212NB4F19/CLKEN (io), 143 IO212PB4F19/CLKEP (io), 146 IO207NB4F19 (io), 147 IO207PB4F19 (io), 152 IO192NB4F17 (io), 153 IO192PB4F17 (io), 154 IO191NB4F17 (io), 155 IO191PB4F17 (io), 158 IO190NB4F17 (io), 159 IO190PB4F17 (io), 160 IO185NB4F17 (io), 161 IO185PB4F17 (io), 164 IO184NB4F17 (io), 165 IO184PB4F17 (io), 166 IO183NB4F17 (io), 167 IO183PB4F17 (io), 170 IO182NB4F17 (io), 171 IO182PB4F17 (io), 172 IO181NB4F17 (io), 173 IO181PB4F17 (io)
part C pins: 2 VCCDA (power), 3 VCCA (power), 8 VCCIB7 (power), 14 VCCA (power), 20 VCCIB7 (power), 26 VCCIB7 (power), 32 VCCA (power), 38 VCCIB7 (power), 44 VCCDA (power), 50 VCCIB6 (power), 56 VCCA (power), 62 VCCIB6 (power), 68 VCCIB6 (power), 74 VCCA (power), 80 VCCIB6 (power), 87 VCCA (power), 90 VCCDA (power), 91 VCCDA (power), 96 VCCIB5 (power), 102 VCCA (power), 108 VCCIB5 (power), 114 VCCA (power), 116 VCCDA (power), 117 VCCDA (power), 120 VCCIB5 (power), 130 VCCDA (power), 131 VCCDA (power), 132 VCCDA (power), 134 PRD (out), 135 PRC (out), 144 VCCIB4 (power), 148 VCCDA (power), 149 VCCDA (power), 150 VCCA (power), 156 VCCIB4 (power), 162 VCCA (power), 168 VCCIB4 (power), 174 VCCDA (power), 175 VCCA (power), 178 VCCDA (power), 185 VCCIB3 (power), 191 VCCA (power), 197 VCCIB3 (power), 203 VCCIB3 (power), 209 VCCA (power), 215 VCCIB3 (power), 221 VCCDA (power), 227 VCCIB2 (power), 233 VCCA (power), 239 VCCIB2 (power), 245 VCCIB2 (power), 251 VCCA (power), 257 VCCIB2 (power), 263 VCCA (power), 266 VCCDA (power), 267 VPUMP (power), 268 VCCDA (power), 273 VCCIB1 (power), 279 VCCA (power), 285 VCCIB1 (power), 291 VCCA (power), 293 VCCDA (power), 294 VCCDA (power), 297 VCCIB1 (power), 307 VCCDA (power), 308 VCCDA (power), 309 VCCDA (power), 311 PRB (out), 312 PRA (out), 321 VCCIB0 (power), 327 VCCDA (power), 328 VCCDA (power), 329 VCCA (power), 333 VCCIB0 (power), 339 VCCA (power), 344 VCCIB0 (power), 346 VCCDA (power), 347 TDO (hiz), 348 TDI (in), 349 TCK (in), 350 TMS (in), 351 ~{TRST} (in)
part D pins: 1 GND (power), 9 GND (power), 15 GND (power), 21 GND (power), 27 GND (power), 33 GND (power), 39 GND (power), 45 GND (power), 51 GND (power), 57 GND (power), 63 GND (power), 69 GND (power), 75 GND (power), 81 GND (power), 88 GND (power), 89 GND (power), 97 GND (power), 103 GND (power), 109 GND (power), 115 GND (power), 121 GND (power), 133 GND (power), 145 GND (power), 151 GND (power), 157 GND (power), 163 GND (power), 169 GND (power), 176 GND (power), 177 GND (power), 186 GND (power), 192 GND (power), 198 GND (power), 204 GND (power), 210 GND (power), 216 GND (power), 222 GND (power), 228 GND (power), 234 GND (power), 240 GND (power), 246 GND (power), 252 GND (power), 258 GND (power), 264 GND (power), 265 GND (power), 274 GND (power), 280 GND (power), 286 GND (power), 292 GND (power), 298 GND (power), 310 GND (power), 322 GND (power), 330 GND (power), 334 GND (power), 340 GND (power), 345 GND (power), 352 GND (power)
part E pins: 124 NC, 125 NC, 126 NC, 127 NC, 138 NC, 139 NC, 140 NC, 141 NC, 301 NC, 302 NC, 303 NC, 304 NC, 315 NC, 316 NC, 317 NC, 318 NC
part A text: Bank 0; Bank 3; Bank 1; Bank 2
part B text: Bank 4; Bank 7; Bank 5; Bank 6

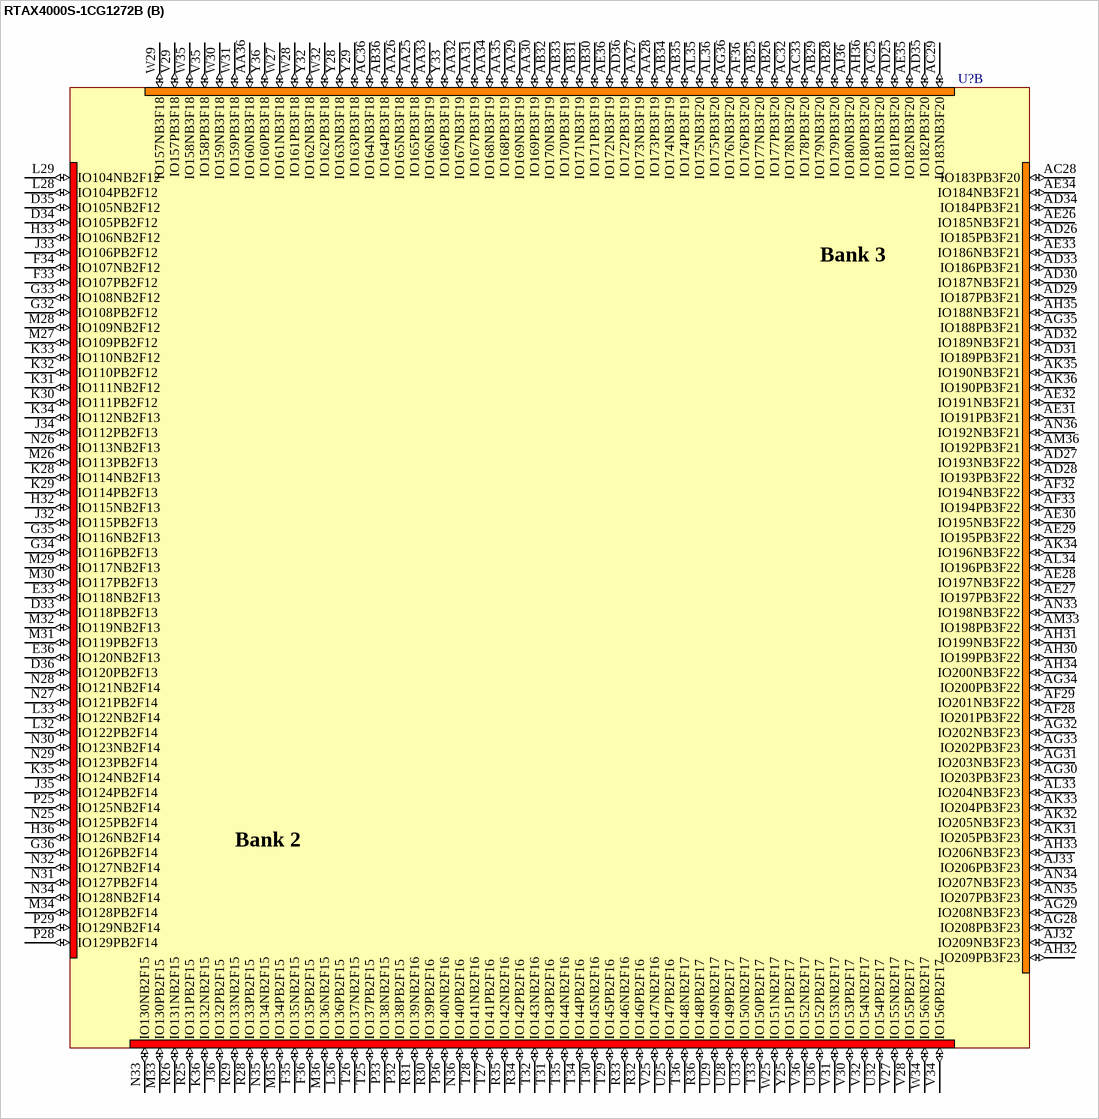
[diagram p273: symbol RTAX4000S-1CG1272B]

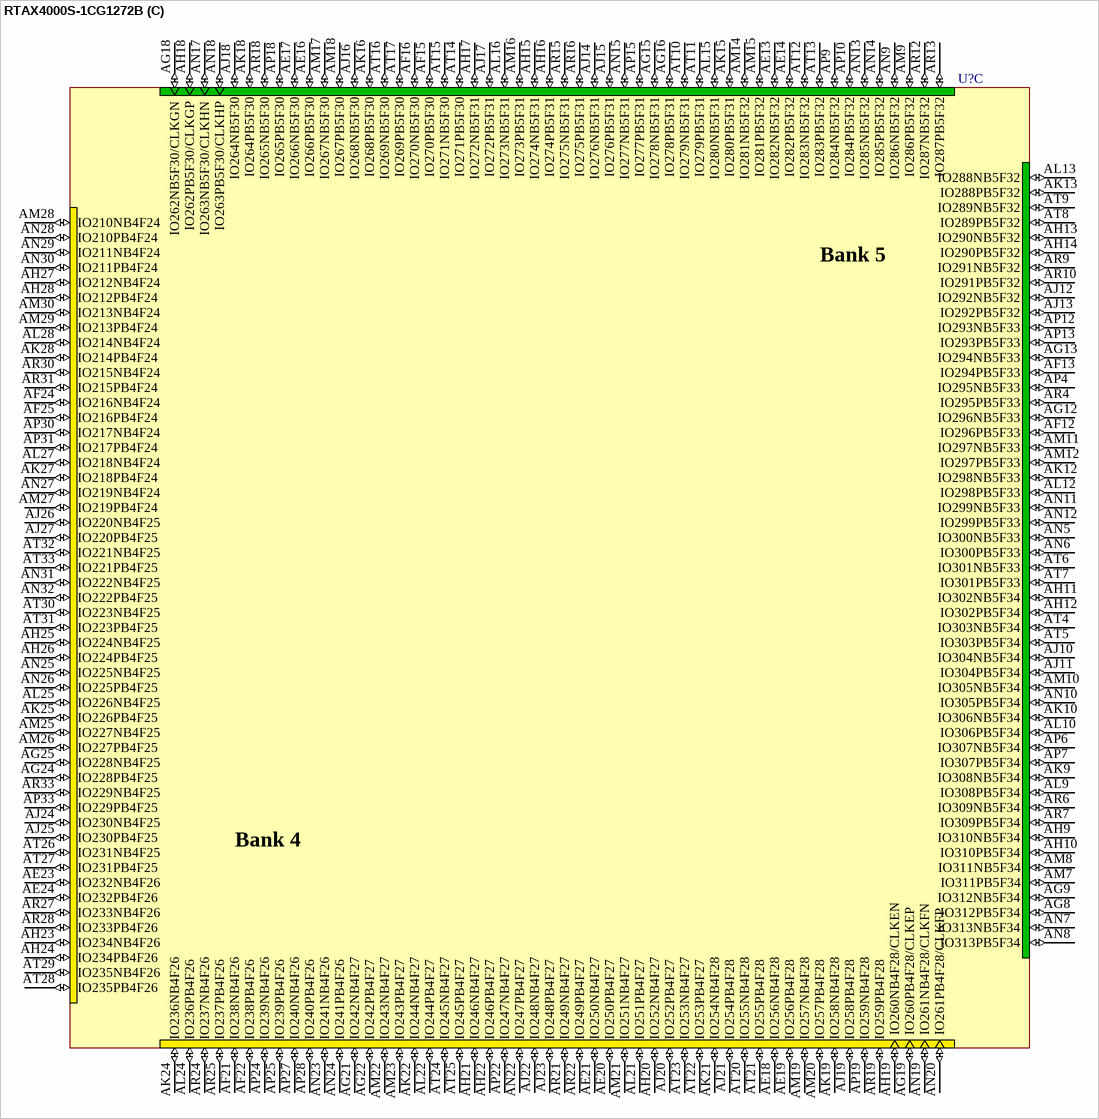
[diagram p274: symbol RTAX4000S-1CG1272B]

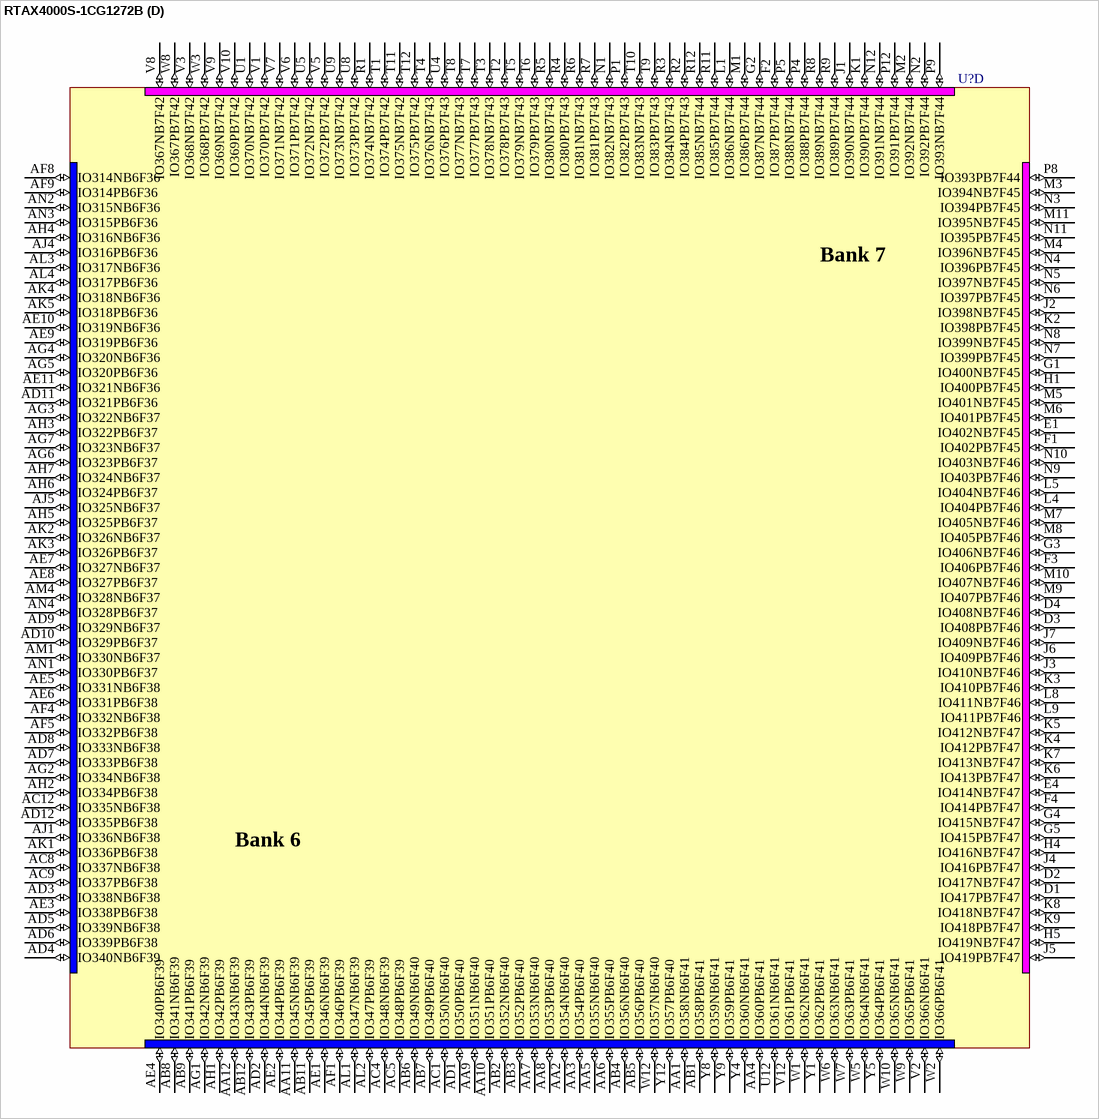
[diagram p275: symbol RTAX4000S-1CG1272B]

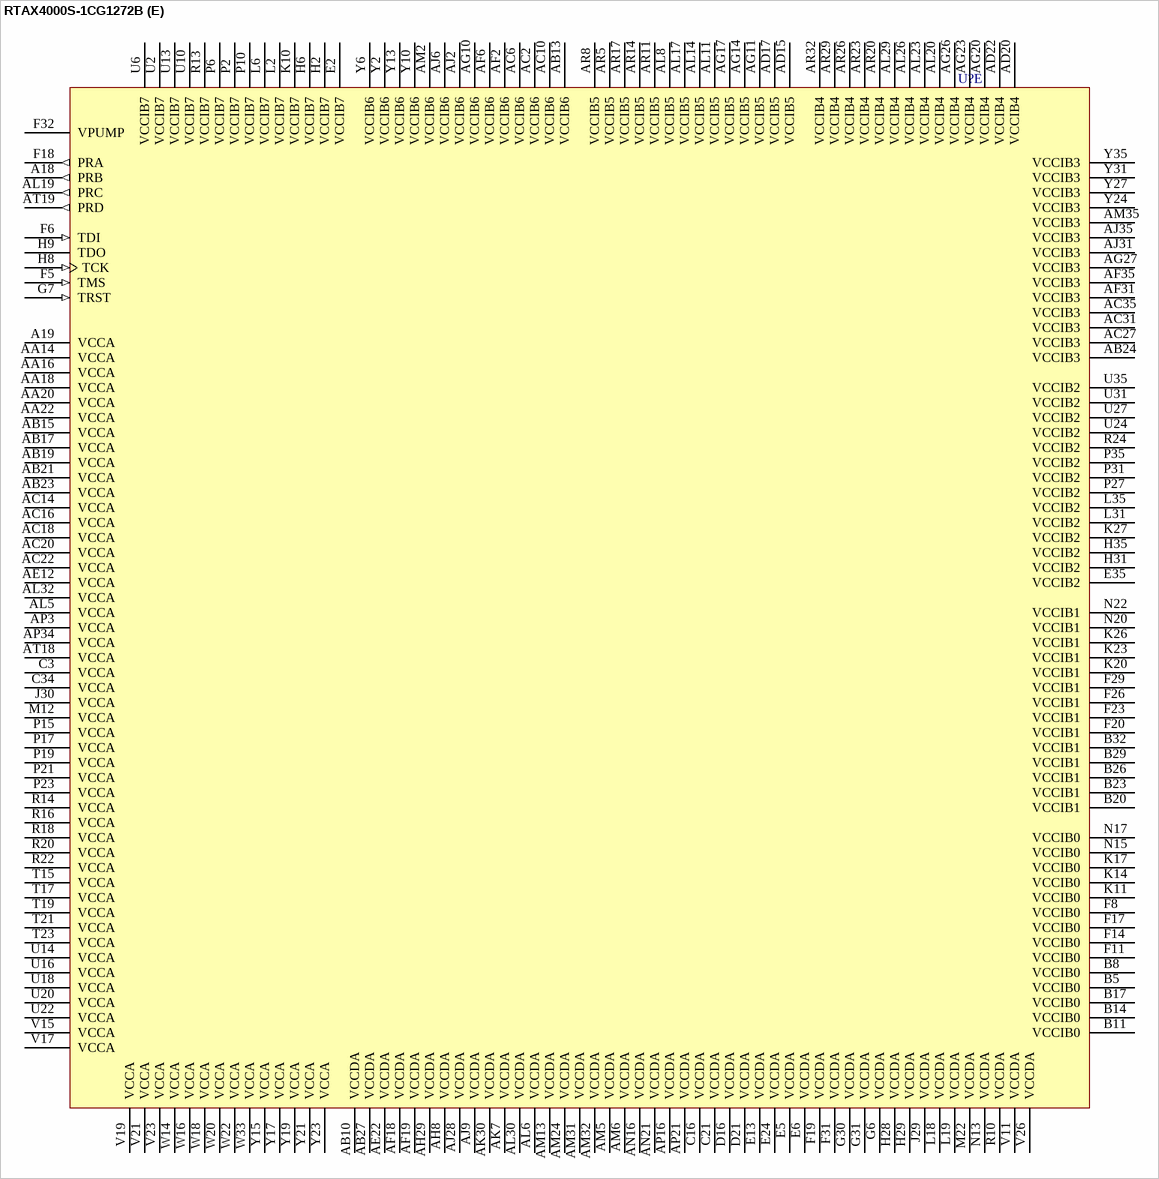
[diagram p276: symbol RTAX4000S-1CG1272B]

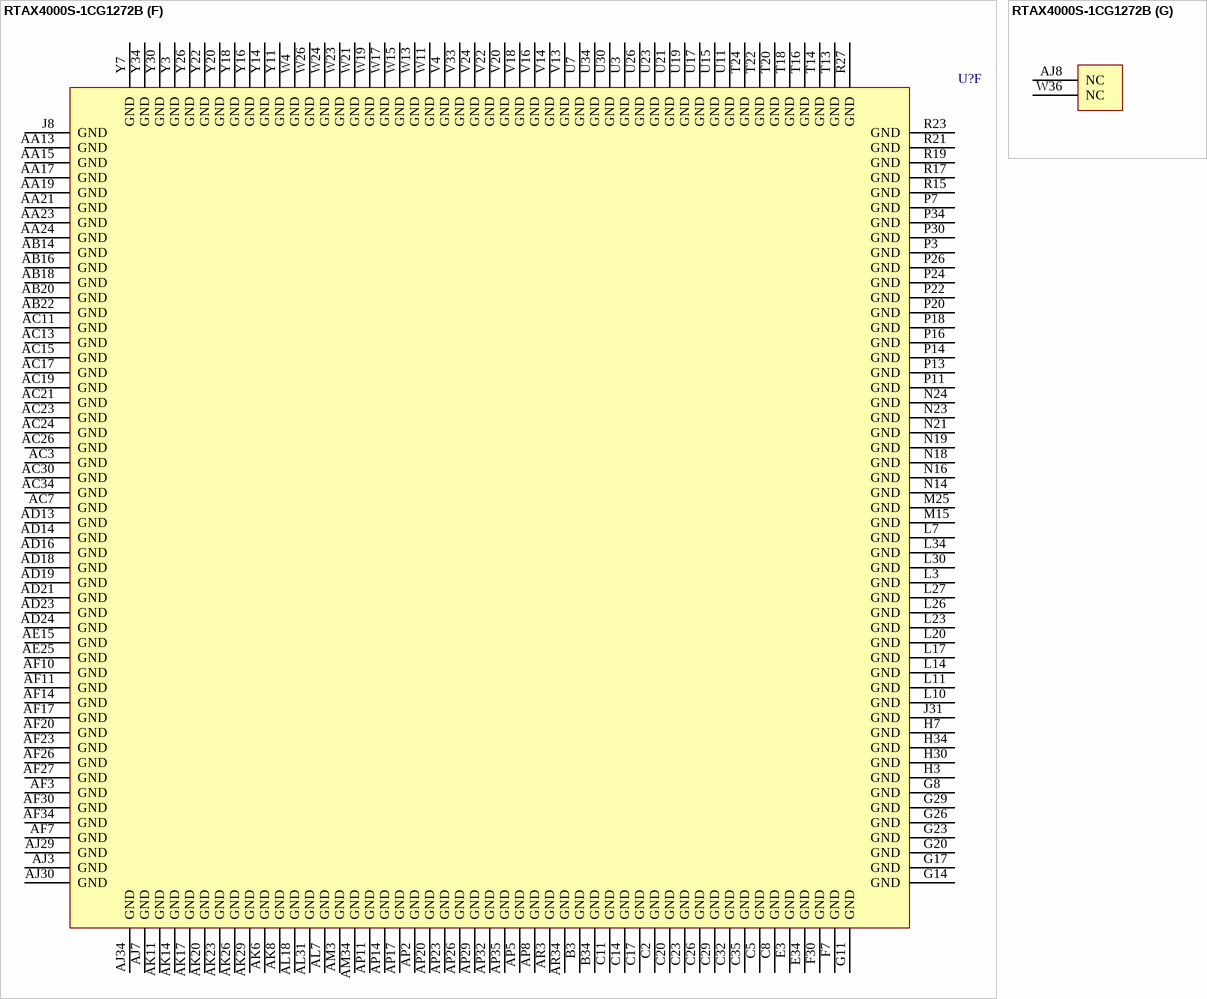
[diagram p277: symbol RTAX4000S-1CG1272B]